# EAGLE library part TC2050-XTAG_TC2050-NL (library xmos_avb_brd_V4)
TAG-CONNECT XMOS XTAG ISP Connector Manufacturer: Tag-Connecat <www.tag-connect.com> Cable for easy In-Circuit PCB Programming. Designed for Standard JTAG 10 Pin, pinout redefined for use with XMOS' xtag Footprint for TC2050 NL PAD Description 1 XL_DN1 2 XL_DN0 3 XL_UP0 4 XL_UP1 5 GND 6 XSYS_RESET_N 7 TMS 8 TCK 9 TDO 10 TDI ©2009 ROFA.cz Modified 3/2020 by Fabian Braun
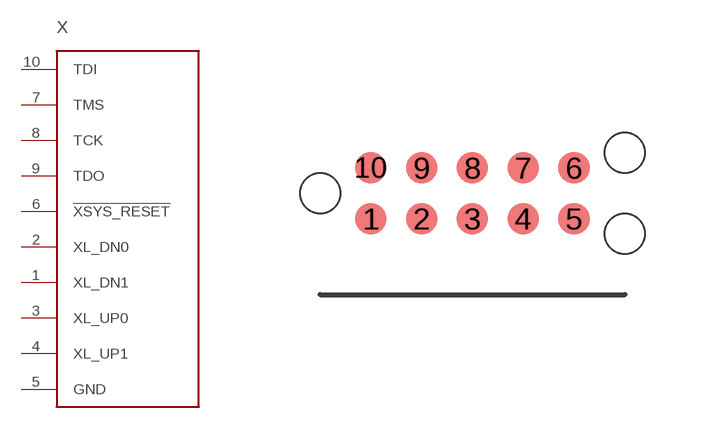
[diagram p7: symbol with the pads of TC2050-XTAG_TC2030-MCP-NL; footprint TC2050-XTAG_TC2030-MCP-NL]

Designator prefix X

## TC2050-XTAG_TC2050-NL-MCP-NL (DNP: DNP; NOTE: This is not a part that can be processed. It's just copper on the PCB.)  [TC2050-XTAG_TC2030-MCP-NL]
1  XL_DN1
2  XL_DN0
3  XL_UP0
4  XL_UP1
5  GND
6  !XSYS_RESET
7  TMS
8  TCK
9  TDO
10  TDI

## Footprint TC2050-XTAG_TC2030-MCP-NL (pad centres in mm)
TAG-CONNECT ISP Connector Manufacturer: Tag-Connecat <www.tag-connect.com> Cable for easy In-Circuit PCB Programming. Designed for Standard JTAG 10 Pin, pinout redefined for use with XMOS' xtag Footprint for TC2050 NL PAD Description 1 XL_DN1 2 XL_DN0 3 XL_UP0 4 XL_UP1 5 GND 6 XSYS_RESET_N 7 TMS 8 TCK 9 TDO 10 TDI ©2009 ROFA.cz Modified 3/2020 by Fabian Braun
smd 0.787 x 0.787: 1 1.27,-0.635; 2 2.54,-0.635; 3 3.81,-0.635; 4 5.08,-0.635; 5 6.35,-0.635; 6 6.35,0.635; 7 5.08,0.635; 8 3.81,0.635; 9 2.54,0.635; 10 1.27,0.635
hole 1 at 0,0
hole 1 at 7.62,-1.016
hole 1 at 7.62,1.016